# EAGLE library part 16PIN2MM (library con-eko)
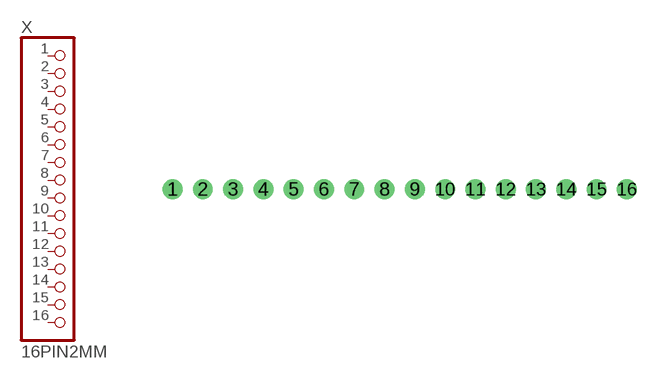
[diagram p1: symbol with the pads of 16PIN2MM; footprint 16PIN2MM]

Designator prefix X

## 16PIN2MM  [16PIN2MM]
1  1  pas
2  2  pas
3  3  pas
4  4  pas
5  5  pas
6  6  pas
7  7  pas
8  8  pas
9  9  pas
10  10  pas
11  11  pas
12  12  pas
13  13  pas
14  14  pas
15  15  pas
16  16  pas

## Footprint 16PIN2MM (pad centres in mm)
drill 0.8: 1 -15,0; 2 -13,0; 3 -11,0; 4 -9,0; 5 -7,0; 6 -5,0; 7 -3,0; 8 -1,0; 9 1,0; 10 3,0; 11 5,0; 12 7,0; 13 9,0; 14 11,0; 15 13,0; 16 15,0